# EAGLE library part TDA8777 (library freega)
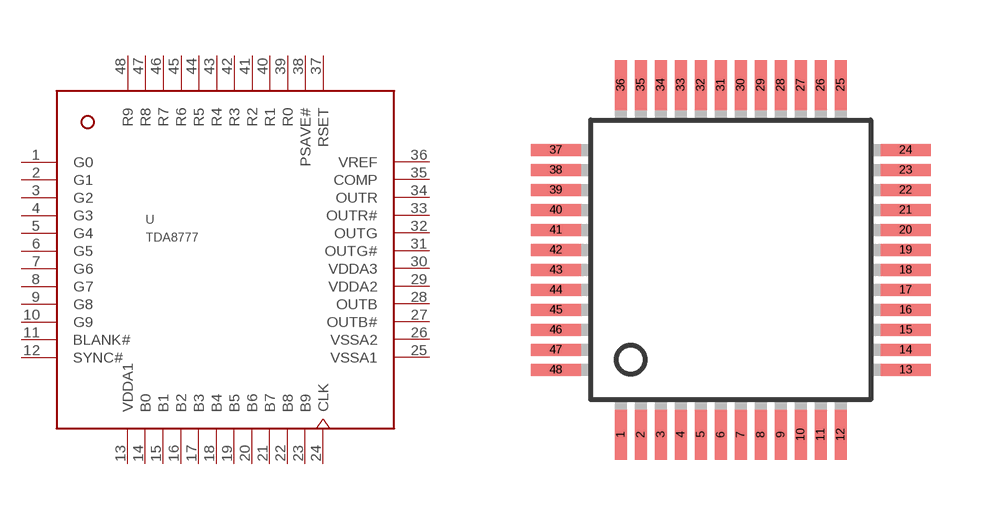
[diagram p0: symbol with the pads of LQFP-48; footprint LQFP-48]

Designator prefix -

## TDA8777  [LQFP-48]
1  G0  in
2  G1  in
3  G2  in
4  G3  in
5  G4  in
6  G5  in
7  G6  in
8  G7  in
9  G8  in
10  G9  in
11  BLANK#  in
12  SYNC#  in
13  VDDA1  pwr
14  B0  in
15  B1  in
16  B2  in
17  B3  in
18  B4  in
19  B5  in
20  B6  in
21  B7  in
22  B8  in
23  B9  in
24  CLK  in
25  VSSA1  pwr
26  VSSA2  pwr
27  OUTB#  out
28  OUTB  out
29  VDDA2  pwr
30  VDDA3  pwr
31  OUTG#  out
32  OUTG  out
33  OUTR#  out
34  OUTR  out
35  COMP  pwr
36  VREF  pwr
37  RSET  in
38  PSAVE#  in
39  R0  in
40  R1  in
41  R2  in
42  R3  in
43  R4  in
44  R5  in
45  R6  in
46  R7  in
47  R8  in
48  R9  in

## Footprint LQFP-48 (pad centres in mm)
smd 0.3 x 1.25: 1 -2.75,-4.375; 2 -2.25,-4.375; 3 -1.75,-4.375; 4 -1.25,-4.375; 5 -0.75,-4.375; 6 -0.25,-4.375; 7 0.25,-4.375; 8 0.75,-4.375; 9 1.25,-4.375; 10 1.75,-4.375; 11 2.25,-4.375; 12 2.75,-4.375; 25 2.75,4.375; 26 2.25,4.375; 27 1.75,4.375; 28 1.25,4.375; 29 0.75,4.375; 30 0.25,4.375; 31 -0.25,4.375; 32 -0.75,4.375; 33 -1.25,4.375; 34 -1.75,4.375; 35 -2.25,4.375; 36 -2.75,4.375
smd 1.25 x 0.3: 13 4.375,-2.75; 14 4.375,-2.25; 15 4.375,-1.75; 16 4.375,-1.25; 17 4.375,-0.75; 18 4.375,-0.25; 19 4.375,0.25; 20 4.375,0.75; 21 4.375,1.25; 22 4.375,1.75; 23 4.375,2.25; 24 4.375,2.75; 37 -4.375,2.75; 38 -4.375,2.25; 39 -4.375,1.75; 40 -4.375,1.25; 41 -4.375,0.75; 42 -4.375,0.25; 43 -4.375,-0.25; 44 -4.375,-0.75; 45 -4.375,-1.25; 46 -4.375,-1.75; 47 -4.375,-2.25; 48 -4.375,-2.75